# Altium footprint library MOLEX_1054301108.PcbLib: 1 footprints
Each footprint in its own frame and in the unit in brackets; x right, y up, seen from the top. Pads: shape width x height; smd on the part's side, far side on the other; paste and mask are expansions set on the pad; w line width, h text height; cw(c..) or ccw(c..) is an arc to the next point about the centre after c.
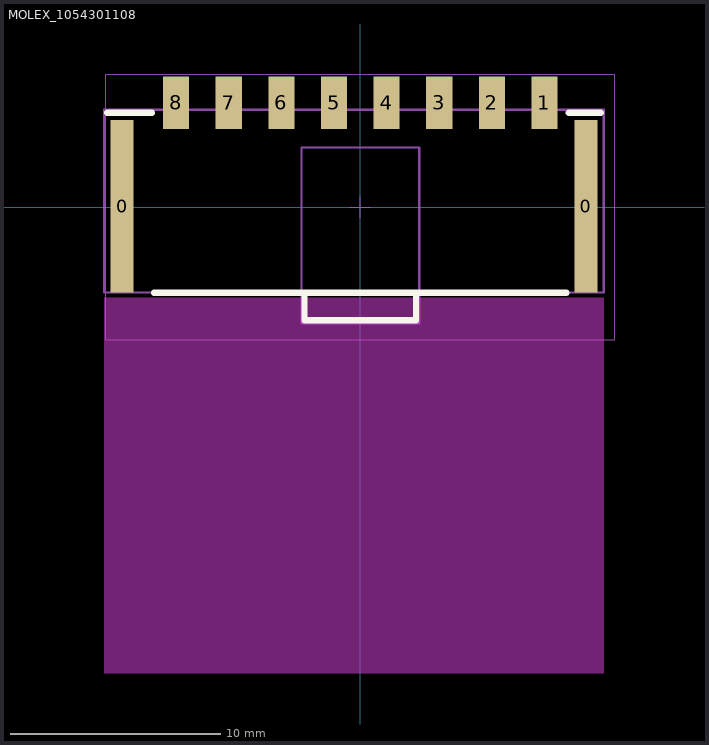
[diagram p0: the footprint, top view; thin cyan lines are the x and y axes]

## MOLEX_1054301108 [mm] "MOLEX_1054301108"
height 6.99
pads (10):
  rect 1.1x8.2 smd mask+0.05: 0(-11.32,0.035) 0(10.72,0.035)
  rect 1.24x2.5 smd mask+0.05: 1(8.75,4.965) 2(6.25,4.965) 3(3.75,4.965) 4(1.25,4.965) 5(-1.25,4.965) 6(-3.75,4.965) 7(-6.25,4.965) 8(-8.75,4.965)
Top Layer keep-out:
  rectangle: -12.17,-22.165 11.57,-4.3
Top Overlay:
  lines w0.3: -12.02,4.475 -9.901,4.475 ; -9.8,-4.065 -2.65,-4.065 ; 9.8,-4.065 2.65,-4.065 ; 9.901,4.475 11.42,4.475 ; -2.65,-4.065 2.65,-4.065 ; -2.65,-4.065 -2.65,-5.375 2.65,-5.375 2.65,-4.065
Mechanical 13:
  lines w0.1: -2.8,-4.065 -2.8,-5.525 2.8,-5.525 2.8,-4.065 ; -2.8,-4.065 -2.8,2.825 2.8,2.825 2.8,-4.065 ; -2.8,-4.065 -12.17,-4.065 -12.17,4.625 11.57,4.625 11.57,-4.065 2.8,-4.065 ; -2.8,-4.065 2.8,-4.065
Mechanical 15:
  lines w0.05: -0.5,0 0.5,0 ; 0,-0.5 0,0.5 ; -12.1,-6.3 -12.1,6.3 12.1,6.3 12.1,-6.3 -12.1,-6.3
3D body "Conn,Nano-Fit,8Pos,2.5mm.stp": height 6.96, standoff -0.03, extent -12.17,-5.555 11.57,5.875